# Altium integrated library ON Semi Signal Management Data Switches.IntLib: 121 symbols (part 2 of 4)
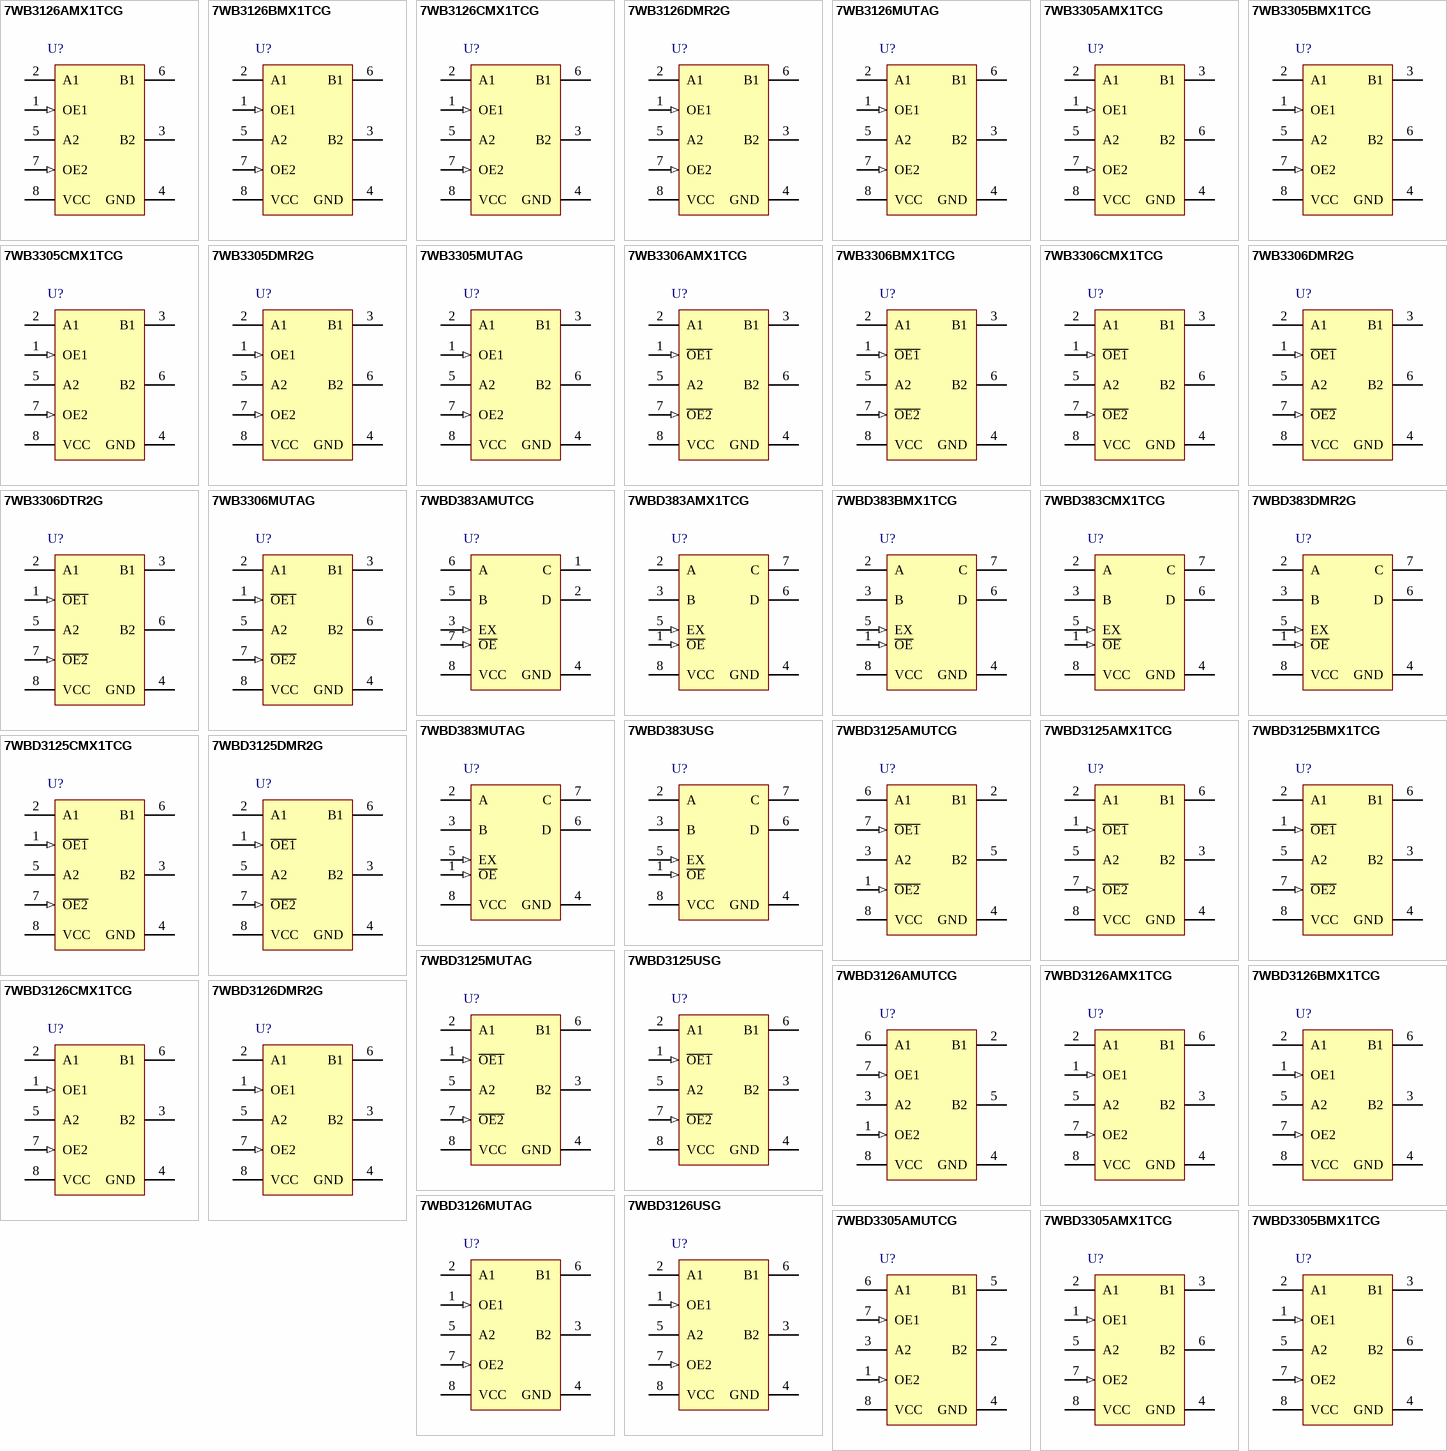
[diagram p4: symbols 7WB3126AMX1TCG to 7WBD3305BMX1TCG]

## 7WB3305BMX1TCG
designator U?
2-Bit Bus Switch, 4 to 5.5 V, -55 to 125 degC, 8-Pin ULLGA, Pb-Free, Tape and Reel; Manufacturer: On Semiconductor; PartNumber: 7WB3305BMX1TCG; VCC Max (V): 5.5; VCC Min (V): 4; DatasheetVersion: Rev. 0; PackageVersion: Rev. A, 02/2008; PackageReference: ULLGA-8-613AB-01; PackageDescription: 8-Pin Land Grid Array, Body 1.6 x 1 mm, Pitch 0.4 mm; Supplier 1: Digi-Key; Supplier Part Number 1: 7WB3305BMX1TCG-ND; Supplier 2: Mouser; Supplier Part Number 2: 863-7WB3305BMX1TCG; Packing: Tape and Reel; RoHS: TRUE; Mounting Technology: Surface Mount; ComponentLink1Description: Manufacturer URL; ComponentLink1URL: http://www.onsemi.com/; ComponentLink2Description: Datasheet; ComponentLink2URL: http://www.onsemi.com/pub_link/Collateral/7WB3305-D.PDF; ComponentLink3Description: Package Specification; ComponentLink3URL: http://www.onsemi.com/pub_link/Collateral/613AB.PDF
footprint ONSC-ULLGA-8-613AB-01_V (SON, 8-Leads, Body 1.6x1mm, Pitch 0.4mm)
pins: 1 OE1 (in), 2 A1, 3 B1, 4 GND (power), 5 A2, 6 B2, 7 OE2 (in), 8 VCC (power)

## 7WB3305CMX1TCG
designator U?
2-Bit Bus Switch, 4 to 5.5 V, -55 to 125 degC, 8-Pin ULLGA, Pb-Free, Tape and Reel; Manufacturer: On Semiconductor; PartNumber: 7WB3305CMX1TCG; VCC Max (V): 5.5; VCC Min (V): 4; DatasheetVersion: Rev. 0; PackageVersion: Rev. A, 02/2008; PackageReference: ULLGA-8-613AA-01; PackageDescription: 8-Pin Land Grid Array, Body 1.45 x 1 mm, Pitch 0.35 mm; Supplier 1: Digi-Key; Supplier Part Number 1: 7WB3305CMX1TCG-ND; Supplier 2: Mouser; Supplier Part Number 2: 863-7WB3305CMX1TCG; Packing: Tape and Reel; RoHS: TRUE; Mounting Technology: Surface Mount; ComponentLink1Description: Manufacturer URL; ComponentLink1URL: http://www.onsemi.com/; ComponentLink2Description: Datasheet; ComponentLink2URL: http://www.onsemi.com/pub_link/Collateral/7WB3305-D.PDF; ComponentLink3Description: Package Specification; ComponentLink3URL: http://www.onsemi.com/pub_link/Collateral/613AA.PDF
footprint ONSC-ULLGA-8-613AA-01_V (SON, 8-Leads, Body 1.45x1mm, Pitch 0.35mm)
pins: 1 OE1 (in), 2 A1, 3 B1, 4 GND (power), 5 A2, 6 B2, 7 OE2 (in), 8 VCC (power)

## 7WB3305DMR2G
designator U?
2-Bit Bus Switch, 4 to 5.5 V, -55 to 125 degC, 8-Pin MICRO, Pb-Free, Tape and Reel; Manufacturer: On Semiconductor; PartNumber: 7WB3305DMR2G; VCC Max (V): 5.5; VCC Min (V): 4; DatasheetVersion: Rev. 0; PackageVersion: Rev. H; PackageReference: MICRO-8-846A-02_H; PackageDescription: 8-Pin Small Outline Package, Body 3 x 3 mm, Pitch 0.65 mm; Packing: Tape and Reel; RoHS: TRUE; Mounting Technology: Surface Mount; ComponentLink1Description: Manufacturer URL; ComponentLink1URL: http://www.onsemi.com/; ComponentLink2Description: Datasheet; ComponentLink2URL: http://www.onsemi.com/pub_link/Collateral/7WB3305-D.PDF; ComponentLink3Description: Package Specification; ComponentLink3URL: http://www.onsemi.com/pub_link/Collateral/NLSV2T244-D.PDF
footprint ONSC-MICRO-8-846A-02_H_V (SOIC, 8-Leads, Body 3.1x3.1mm, Pitch 0.65mm)
pins: 1 OE1 (in), 2 A1, 3 B1, 4 GND (power), 5 A2, 6 B2, 7 OE2 (in), 8 VCC (power)

## 7WB3305MUTAG
designator U?
2-Bit Bus Switch, 4 to 5.5 V, -55 to 125 degC, 8-Pin UDFN, Pb-Free, Tape and Reel; Manufacturer: On Semiconductor; PartNumber: 7WB3305MUTAG; VCC Max (V): 5.5; VCC Min (V): 4; DatasheetVersion: Rev. 0; PackageVersion: Rev. O, 11/2006; PackageReference: UDFN-8-517AJ-01; PackageDescription: 8-Pin Small Outline No-Lead, Body 1.8 x 1.2 mm, Pitch 0.4 mm; Supplier 1: Digi-Key; Supplier Part Number 1: 7WB3305MUTAG-ND; Supplier 2: Mouser; Supplier Part Number 2: 863-7WB3305MUTAG; Packing: Tape and Reel; RoHS: TRUE; Mounting Technology: Surface Mount; ComponentLink1Description: Manufacturer URL; ComponentLink1URL: http://www.onsemi.com/; ComponentLink2Description: Datasheet; ComponentLink2URL: http://www.onsemi.com/pub_link/Collateral/7WB3305-D.PDF; ComponentLink3Description: Package Specification; ComponentLink3URL: http://www.onsemi.cn/pub_link/Collateral/517AJ.PDF.1
footprint ONSC-UDFN-8-517AJ-01_V (SON, 8-Leads, Body 1.8x1.2mm, Pitch 0.4mm)
pins: 1 OE1 (in), 2 A1, 3 B1, 4 GND (power), 5 A2, 6 B2, 7 OE2 (in), 8 VCC (power)

## 7WB3306AMX1TCG
designator U?
2-Bit Bus Switch, 4 to 5.5 V, -55 to 125 degC, 8-Pin ULLGA, Pb-Free, Tape and Reel; Manufacturer: On Semiconductor; PartNumber: 7WB3306AMX1TCG; VCC Max (V): 5.5; VCC Min (V): 4; DatasheetVersion: Rev. 2; PackageVersion: Rev. A, 02/2008; PackageReference: ULLGA-8-613AC-01; PackageDescription: 8-Pin Land Grid Array, Body 1.95 x 1 mm, Pitch 0.5 mm; Supplier 1: Digi-Key; Supplier Part Number 1: 7WB3306AMX1TCG-ND; Supplier 2: Mouser; Supplier Part Number 2: 863-7WB3306AMX1TCG; Packing: Tape and Reel; RoHS: TRUE; Mounting Technology: Surface Mount; ComponentLink1Description: Manufacturer URL; ComponentLink1URL: http://www.onsemi.com/; ComponentLink2Description: Datasheet; ComponentLink2URL: http://www.onsemi.com/pub_link/Collateral/7WB3306-D.PDF; ComponentLink3Description: Package Specification; ComponentLink3URL: http://www.onsemi.com/pub_link/Collateral/613AC.PDF
footprint ONSC-ULLGA-8-613AC-01_V (ULLGA, 8-Leads, Body 1.95x1mm, Pitch 0.5mm)
pins: 1 ~{OE1} (in), 2 A1, 3 B1, 4 GND (power), 5 A2, 6 B2, 7 ~{OE2} (in), 8 VCC (power)

## 7WB3306BMX1TCG
designator U?
2-Bit Bus Switch, 4 to 5.5 V, -55 to 125 degC, 8-Pin ULLGA, Pb-Free, Tape and Reel; Manufacturer: On Semiconductor; PartNumber: 7WB3306BMX1TCG; VCC Max (V): 5.5; VCC Min (V): 4; DatasheetVersion: Rev. 2; PackageVersion: Rev. A, 02/2008; PackageReference: ULLGA-8-613AB-01; PackageDescription: 8-Pin Land Grid Array, Body 1.6 x 1 mm, Pitch 0.4 mm; Supplier 1: Digi-Key; Supplier Part Number 1: 7WB3306BMX1TCG-ND; Supplier 2: Mouser; Supplier Part Number 2: 863-7WB3306BMX1TCG; Packing: Tape and Reel; RoHS: TRUE; Mounting Technology: Surface Mount; ComponentLink1Description: Manufacturer URL; ComponentLink1URL: http://www.onsemi.com/; ComponentLink2Description: Datasheet; ComponentLink2URL: http://www.onsemi.com/pub_link/Collateral/7WB3306-D.PDF; ComponentLink3Description: Package Specification; ComponentLink3URL: http://www.onsemi.com/pub_link/Collateral/613AB.PDF
footprint ONSC-ULLGA-8-613AB-01_V (SON, 8-Leads, Body 1.6x1mm, Pitch 0.4mm)
pins: 1 ~{OE1} (in), 2 A1, 3 B1, 4 GND (power), 5 A2, 6 B2, 7 ~{OE2} (in), 8 VCC (power)

## 7WB3306CMX1TCG
designator U?
2-Bit Bus Switch, 4 to 5.5 V, -55 to 125 degC, 8-Pin ULLGA, Pb-Free, Tape and Reel; Manufacturer: On Semiconductor; PartNumber: 7WB3306CMX1TCG; VCC Max (V): 5.5; VCC Min (V): 4; DatasheetVersion: Rev. 2; PackageVersion: Rev. A, 02/2008; PackageReference: ULLGA-8-613AA-01; PackageDescription: 8-Pin Land Grid Array, Body 1.45 x 1 mm, Pitch 0.35 mm; Supplier 1: Digi-Key; Supplier Part Number 1: 7WB3306CMX1TCG-ND; Supplier 2: Mouser; Supplier Part Number 2: 863-7WB3306CMX1TCG; Packing: Tape and Reel; RoHS: TRUE; Mounting Technology: Surface Mount; ComponentLink1Description: Manufacturer URL; ComponentLink1URL: http://www.onsemi.com/; ComponentLink2Description: Datasheet; ComponentLink2URL: http://www.onsemi.com/pub_link/Collateral/7WB3306-D.PDF; ComponentLink3Description: Package Specification; ComponentLink3URL: http://www.onsemi.com/pub_link/Collateral/613AA.PDF
footprint ONSC-ULLGA-8-613AA-01_V (SON, 8-Leads, Body 1.45x1mm, Pitch 0.35mm)
pins: 1 ~{OE1} (in), 2 A1, 3 B1, 4 GND (power), 5 A2, 6 B2, 7 ~{OE2} (in), 8 VCC (power)

## 7WB3306DMR2G
designator U?
2-Bit Bus Switch, 4 to 5.5 V, -55 to 125 degC, 8-Pin MICRO, Pb-Free, Tape and Reel; Manufacturer: On Semiconductor; PartNumber: 7WB3306DMR2G; VCC Max (V): 5.5; VCC Min (V): 4; DatasheetVersion: Rev. 2; PackageVersion: Rev. H; PackageReference: MICRO-8-846A-02_H; PackageDescription: 8-Pin Small Outline Package, Body 3 x 3 mm, Pitch 0.65 mm; Packing: Tape and Reel; RoHS: TRUE; Mounting Technology: Surface Mount; ComponentLink1Description: Manufacturer URL; ComponentLink1URL: http://www.onsemi.com/; ComponentLink2Description: Datasheet; ComponentLink2URL: http://www.onsemi.com/pub_link/Collateral/7WB3306-D.PDF; ComponentLink3Description: Package Specification; ComponentLink3URL: http://www.onsemi.com/pub_link/Collateral/NLSV2T244-D.PDF
footprint ONSC-MICRO-8-846A-02_H_V (SOIC, 8-Leads, Body 3.1x3.1mm, Pitch 0.65mm)
pins: 1 ~{OE1} (in), 2 A1, 3 B1, 4 GND (power), 5 A2, 6 B2, 7 ~{OE2} (in), 8 VCC (power)

## 7WB3306DTR2G
designator U?
2-Bit Bus Switch, 4 to 5.5 V, -55 to 125 degC, 8-Pin TSSOP, Pb-Free, Tape and Reel; Manufacturer: On Semiconductor; PartNumber: 7WB3306DTR2G; VCC Max (V): 5.5; VCC Min (V): 4; DatasheetVersion: Rev. 2; PackageVersion: Rev. O, 12/2008; PackageReference: TSSOP-8-948AL-01; PackageDescription: 8-Pin Small Outline Package, Body 4.4 x 3 mm, Pitch 0.65 mm; Supplier 1: Digi-Key; Supplier Part Number 1: 7WB3306DTR2G-ND; Supplier 2: Mouser; Supplier Part Number 2: 863-7WB3306DTR2G; Packing: Tape and Reel; RoHS: TRUE; Mounting Technology: Surface Mount; Code_JEDEC: MO-153; ComponentLink1Description: Manufacturer URL; ComponentLink1URL: http://www.onsemi.com/; ComponentLink2Description: Datasheet; ComponentLink2URL: http://www.onsemi.com/pub_link/Collateral/7WB3306-D.PDF; ComponentLink3Description: Package Specification; ComponentLink3URL: http://www.onsemi.com/pub/Collateral/948AL.PDF
footprint ONSC-TSSOP-8-948AL-01_N (SOP, 8-Leads, Body 4.5x3.1mm, Pitch 0.65mm, IPC Medium Density)
footprint ONSC-TSSOP-8-948AL-01_L (SOP, 8-Leads, Body 4.5x3.1mm, Pitch 0.65mm, IPC High Density)
footprint ONSC-TSSOP-8-948AL-01_M (SOP, 8-Leads, Body 4.5x3.1mm, Pitch 0.65mm, IPC Low Density)
pins: 1 ~{OE1} (in), 2 A1, 3 B1, 4 GND (power), 5 A2, 6 B2, 7 ~{OE2} (in), 8 VCC (power)

## 7WB3306MUTAG
designator U?
2-Bit Bus Switch, 4 to 5.5 V, -55 to 125 degC, 8-Pin UDFN, Pb-Free, Tape and Reel; Manufacturer: On Semiconductor; PartNumber: 7WB3306MUTAG; VCC Max (V): 5.5; VCC Min (V): 4; DatasheetVersion: Rev. 2; PackageVersion: Rev. O, 11/2006; PackageReference: UDFN-8-517AJ-01; PackageDescription: 8-Pin Small Outline No-Lead, Body 1.8 x 1.2 mm, Pitch 0.4 mm; Supplier 1: Digi-Key; Supplier Part Number 1: 7WB3306MUTAG-ND; Supplier 2: Mouser; Supplier Part Number 2: 863-7WB3306MUTAG; Packing: Tape and Reel; RoHS: TRUE; Mounting Technology: Surface Mount; ComponentLink1Description: Manufacturer URL; ComponentLink1URL: http://www.onsemi.com/; ComponentLink2Description: Datasheet; ComponentLink2URL: http://www.onsemi.com/pub_link/Collateral/7WB3306-D.PDF; ComponentLink3Description: Package Specification; ComponentLink3URL: http://www.onsemi.cn/pub_link/Collateral/517AJ.PDF.1
footprint ONSC-UDFN-8-517AJ-01_V (SON, 8-Leads, Body 1.8x1.2mm, Pitch 0.4mm)
pins: 1 ~{OE1} (in), 2 A1, 3 B1, 4 GND (power), 5 A2, 6 B2, 7 ~{OE2} (in), 8 VCC (power)

## 7WBD383AMUTCG
designator U?
Translating Bus Exchange Switch, 4 to 5.5 V, -55 to 125 degC, 8-Pin UQFN, Pb-Free, Tape and Reel; Manufacturer: On Semiconductor; PartNumber: 7WBD383AMUTCG; VCC Max (V): 5.5; VCC Min (V): 4; DatasheetVersion: Rev. 1; PackageVersion: Rev. O, 11/2008; PackageReference: UQFN-8-523AN-01; PackageDescription: 8-Pin Quad Flat No-Lead, Body 1.6 x 1.6 mm, Pitch 0.5 mm; Supplier 1: Digi-Key; Supplier Part Number 1: 7WBD383AMUTCG-ND; Supplier 2: Mouser; Supplier Part Number 2: 863-7WBD383AMUTCG; Packing: Tape and Reel; RoHS: TRUE; Mounting Technology: Surface Mount; ComponentLink1Description: Manufacturer URL; ComponentLink1URL: http://www.onsemi.com/; ComponentLink2Description: Datasheet; ComponentLink2URL: http://www.onsemi.com/pub/Collateral/7WBD383-D.PDF; ComponentLink3Description: Package Specification; ComponentLink3URL: http://www.onsemi.com/pub_link/Collateral/523AN.PDF
footprint ONSC-UQFN-8-523AN-01_V (QFN, 8-Leads, Body 1.6x1.6mm, Pitch 0.5mm)
pins: 1 C, 2 D, 3 EX (in), 4 GND (power), 5 B, 6 A, 7 ~{OE} (in), 8 VCC (power)

## 7WBD383AMX1TCG
designator U?
Translating Bus Exchange Switch, 4 to 5.5 V, -55 to 125 degC, 8-Pin ULLGA, Pb-Free, Tape and Reel; Manufacturer: On Semiconductor; PartNumber: 7WBD383AMX1TCG; VCC Max (V): 5.5; VCC Min (V): 4; DatasheetVersion: Rev. 1; PackageVersion: Rev. A, 02/2008; PackageReference: ULLGA-8-613AC-01; PackageDescription: 8-Pin Land Grid Array, Body 1.95 x 1 mm, Pitch 0.5 mm; Supplier 1: Digi-Key; Supplier Part Number 1: 7WBD383AMX1TCG-ND; Supplier 2: Mouser; Supplier Part Number 2: 863-7WBD383AMX1TCG; Packing: Tape and Reel; RoHS: TRUE; Mounting Technology: Surface Mount; ComponentLink1Description: Manufacturer URL; ComponentLink1URL: http://www.onsemi.com/; ComponentLink2Description: Datasheet; ComponentLink2URL: http://www.onsemi.com/pub/Collateral/7WBD383-D.PDF; ComponentLink3Description: Package Specification; ComponentLink3URL: http://www.onsemi.com/pub_link/Collateral/613AC.PDF
footprint ONSC-ULLGA-8-613AC-01_V (ULLGA, 8-Leads, Body 1.95x1mm, Pitch 0.5mm)
pins: 1 ~{OE} (in), 2 A, 3 B, 4 GND (power), 5 EX (in), 6 D, 7 C, 8 VCC (power)

## 7WBD383BMX1TCG
designator U?
Translating Bus Exchange Switch, 4 to 5.5 V, -55 to 125 degC, 8-Pin ULLGA, Pb-Free, Tape and Reel; Manufacturer: On Semiconductor; PartNumber: 7WBD383BMX1TCG; VCC Max (V): 5.5; VCC Min (V): 4; DatasheetVersion: Rev. 1; PackageVersion: Rev. A, 02/2008; PackageReference: ULLGA-8-613AB-01; PackageDescription: 8-Pin Land Grid Array, Body 1.6 x 1 mm, Pitch 0.4 mm; Supplier 1: Digi-Key; Supplier Part Number 1: 7WBD383BMX1TCG-ND; Supplier 2: Mouser; Supplier Part Number 2: 863-7WBD383BMX1TCG; Packing: Tape and Reel; RoHS: TRUE; Mounting Technology: Surface Mount; ComponentLink1Description: Manufacturer URL; ComponentLink1URL: http://www.onsemi.com/; ComponentLink2Description: Datasheet; ComponentLink2URL: http://www.onsemi.com/pub/Collateral/7WBD383-D.PDF; ComponentLink3Description: Package Specification; ComponentLink3URL: http://www.onsemi.com/pub_link/Collateral/613AB.PDF
footprint ONSC-ULLGA-8-613AB-01_V (SON, 8-Leads, Body 1.6x1mm, Pitch 0.4mm)
pins: 1 ~{OE} (in), 2 A, 3 B, 4 GND (power), 5 EX (in), 6 D, 7 C, 8 VCC (power)

## 7WBD383CMX1TCG
designator U?
Translating Bus Exchange Switch, 4 to 5.5 V, -55 to 125 degC, 8-Pin ULLGA, Pb-Free, Tape and Reel; Manufacturer: On Semiconductor; PartNumber: 7WBD383CMX1TCG; VCC Max (V): 5.5; VCC Min (V): 4; DatasheetVersion: Rev. 1; PackageVersion: Rev. A, 02/2008; PackageReference: ULLGA-8-613AA-01; PackageDescription: 8-Pin Land Grid Array, Body 1.45 x 1 mm, Pitch 0.35 mm; Supplier 1: Digi-Key; Supplier Part Number 1: 7WBD383CMX1TCG-ND; Supplier 2: Mouser; Supplier Part Number 2: 863-7WBD383CMX1TCG; Packing: Tape and Reel; RoHS: TRUE; Mounting Technology: Surface Mount; ComponentLink1Description: Manufacturer URL; ComponentLink1URL: http://www.onsemi.com/; ComponentLink2Description: Datasheet; ComponentLink2URL: http://www.onsemi.com/pub/Collateral/7WBD383-D.PDF; ComponentLink3Description: Package Specification; ComponentLink3URL: http://www.onsemi.com/pub_link/Collateral/613AA.PDF
footprint ONSC-ULLGA-8-613AA-01_V (SON, 8-Leads, Body 1.45x1mm, Pitch 0.35mm)
pins: 1 ~{OE} (in), 2 A, 3 B, 4 GND (power), 5 EX (in), 6 D, 7 C, 8 VCC (power)

## 7WBD383DMR2G
designator U?
Translating Bus Exchange Switch, 4 to 5.5 V, -55 to 125 degC, 8-Pin MICRO, Pb-Free, Tape and Reel; Manufacturer: On Semiconductor; PartNumber: 7WBD383DMR2G; VCC Max (V): 5.5; VCC Min (V): 4; DatasheetVersion: Rev. 1; PackageVersion: Rev. H; PackageReference: MICRO-8-846A-02_H; PackageDescription: 8-Pin Small Outline Package, Body 3 x 3 mm, Pitch 0.65 mm; Packing: Tape and Reel; RoHS: TRUE; Mounting Technology: Surface Mount; ComponentLink1Description: Manufacturer URL; ComponentLink1URL: http://www.onsemi.com/; ComponentLink2Description: Datasheet; ComponentLink2URL: http://www.onsemi.com/pub/Collateral/7WBD383-D.PDF; ComponentLink3Description: Package Specification; ComponentLink3URL: http://www.onsemi.com/pub_link/Collateral/NLSV2T244-D.PDF
footprint ONSC-MICRO-8-846A-02_H_V (SOIC, 8-Leads, Body 3.1x3.1mm, Pitch 0.65mm)
pins: 1 ~{OE} (in), 2 A, 3 B, 4 GND (power), 5 EX (in), 6 D, 7 C, 8 VCC (power)

## 7WBD383MUTAG
designator U?
Translating Bus Exchange Switch, 4 to 5.5 V, -55 to 125 degC, 8-Pin UDFN, Pb-Free, Tape and Reel; Manufacturer: On Semiconductor; PartNumber: 7WBD383MUTAG; VCC Max (V): 5.5; VCC Min (V): 4; DatasheetVersion: Rev. 1; PackageVersion: Rev. O, 11/2006; PackageReference: UDFN-8-517AJ-01; PackageDescription: 8-Pin Small Outline No-Lead, Body 1.8 x 1.2 mm, Pitch 0.4 mm; Supplier 1: Digi-Key; Supplier Part Number 1: 7WBD383MUTAG-ND; Supplier 2: Mouser; Supplier Part Number 2: 863-7WBD383MUTAG; Packing: Tape and Reel; RoHS: TRUE; Mounting Technology: Surface Mount; ComponentLink1Description: Manufacturer URL; ComponentLink1URL: http://www.onsemi.com/; ComponentLink2Description: Datasheet; ComponentLink2URL: http://www.onsemi.com/pub/Collateral/7WBD383-D.PDF; ComponentLink3Description: Package Specification; ComponentLink3URL: http://www.onsemi.cn/pub_link/Collateral/517AJ.PDF.1
footprint ONSC-UDFN-8-517AJ-01_V (SON, 8-Leads, Body 1.8x1.2mm, Pitch 0.4mm)
pins: 1 ~{OE} (in), 2 A, 3 B, 4 GND (power), 5 EX (in), 6 D, 7 C, 8 VCC (power)

## 7WBD383USG
designator U?
Translating Bus Exchange Switch, 4 to 5.5 V, -55 to 125 degC, 8-Pin US, Pb-Free, Tape and Reel; Manufacturer: On Semiconductor; PartNumber: 7WBD383USG; VCC Max (V): 5.5; VCC Min (V): 4; DatasheetVersion: Rev. 1; PackageVersion: Rev. B, 04/2006; PackageReference: US-8-493-02; PackageDescription: 8-Pin Small Outline Package, Body 2 x 2.3 mm, Pitch 0.5 mm; Supplier 1: Digi-Key; Supplier Part Number 1: 7WBD383USG-ND; Supplier 2: Mouser; Supplier Part Number 2: 863-7WBD383USG; Packing: Tape and Reel; RoHS: TRUE; Mounting Technology: Surface Mount; ComponentLink1Description: Manufacturer URL; ComponentLink1URL: http://www.onsemi.com/; ComponentLink2Description: Datasheet; ComponentLink2URL: http://www.onsemi.com/pub/Collateral/7WBD383-D.PDF; ComponentLink3Description: Package Specification; ComponentLink3URL: http://www.onsemi.com/pub_link/Collateral/493-01.PDF
footprint ONSC-US-8-493-02_V (SOP, 8-Leads, Body 2.4x2.1mm, Pitch 0.5mm)
pins: 1 ~{OE} (in), 2 A, 3 B, 4 GND (power), 5 EX (in), 6 D, 7 C, 8 VCC (power)

## 7WBD3125AMUTCG
designator U?
2-Bit Translating Bus Switch, 4 to 5.5 V, -55 to 125 degC, 8-Pin UQFN, Pb-Free, Tape and Reel; Manufacturer: On Semiconductor; PartNumber: 7WBD3125AMUTCG; VCC Max (V): 5.5; VCC Min (V): 4; DatasheetVersion: Rev. 1; PackageVersion: Rev. O, 11/2008; PackageReference: UQFN-8-523AN-01; PackageDescription: 8-Pin Quad Flat No-Lead, Body 1.6 x 1.6 mm, Pitch 0.5 mm; Supplier 1: Digi-Key; Supplier Part Number 1: 7WBD3125AMUTCG-ND; Supplier 2: Mouser; Supplier Part Number 2: 863-7WBD3125AMUTCG; Packing: Tape and Reel; RoHS: TRUE; Mounting Technology: Surface Mount; ComponentLink1Description: Manufacturer URL; ComponentLink1URL: http://www.onsemi.com/; ComponentLink2Description: Datasheet; ComponentLink2URL: http://www.onsemi.com/pub/Collateral/7WBD3125-D.PDF; ComponentLink3Description: Package Specification; ComponentLink3URL: http://www.onsemi.com/pub_link/Collateral/523AN.PDF
footprint ONSC-UQFN-8-523AN-01_V (QFN, 8-Leads, Body 1.6x1.6mm, Pitch 0.5mm)
pins: 1 ~{OE2} (in), 2 B1, 3 A2, 4 GND (power), 5 B2, 6 A1, 7 ~{OE1} (in), 8 VCC (power)

## 7WBD3125AMX1TCG
designator U?
2-Bit Translating Bus Switch, 4 to 5.5 V, -55 to 125 degC, 8-Pin ULLGA, Pb-Free, Tape and Reel; Manufacturer: On Semiconductor; PartNumber: 7WBD3125AMX1TCG; VCC Max (V): 5.5; VCC Min (V): 4; DatasheetVersion: Rev. 1; PackageVersion: Rev. A, 02/2008; PackageReference: ULLGA-8-613AC-01; PackageDescription: 8-Pin Land Grid Array, Body 1.95 x 1 mm, Pitch 0.5 mm; Supplier 1: Digi-Key; Supplier Part Number 1: 7WBD3125AMX1TCG-ND; Supplier 2: Mouser; Supplier Part Number 2: 863-7WBD3125AMX1TCG; Packing: Tape and Reel; RoHS: TRUE; Mounting Technology: Surface Mount; ComponentLink1Description: Manufacturer URL; ComponentLink1URL: http://www.onsemi.com/; ComponentLink2Description: Datasheet; ComponentLink2URL: http://www.onsemi.com/pub/Collateral/7WBD3125-D.PDF; ComponentLink3Description: Package Specification; ComponentLink3URL: http://www.onsemi.com/pub_link/Collateral/613AC.PDF
footprint ONSC-ULLGA-8-613AC-01_V (ULLGA, 8-Leads, Body 1.95x1mm, Pitch 0.5mm)
pins: 1 ~{OE1} (in), 2 A1, 3 B2, 4 GND (power), 5 A2, 6 B1, 7 ~{OE2} (in), 8 VCC (power)

## 7WBD3125BMX1TCG
designator U?
2-Bit Translating Bus Switch, 4 to 5.5 V, -55 to 125 degC, 8-Pin ULLGA, Pb-Free, Tape and Reel; Manufacturer: On Semiconductor; PartNumber: 7WBD3125BMX1TCG; VCC Max (V): 5.5; VCC Min (V): 4; DatasheetVersion: Rev. 1; PackageVersion: Rev. A, 02/2008; PackageReference: ULLGA-8-613AB-01; PackageDescription: 8-Pin Land Grid Array, Body 1.6 x 1 mm, Pitch 0.4 mm; Supplier 1: Digi-Key; Supplier Part Number 1: 7WBD3125BMX1TCG-ND; Supplier 2: Mouser; Supplier Part Number 2: 863-7WBD3125BMX1TCG; Packing: Tape and Reel; RoHS: TRUE; Mounting Technology: Surface Mount; ComponentLink1Description: Manufacturer URL; ComponentLink1URL: http://www.onsemi.com/; ComponentLink2Description: Datasheet; ComponentLink2URL: http://www.onsemi.com/pub/Collateral/7WBD3125-D.PDF; ComponentLink3Description: Package Specification; ComponentLink3URL: http://www.onsemi.com/pub_link/Collateral/613AB.PDF
footprint ONSC-ULLGA-8-613AB-01_V (SON, 8-Leads, Body 1.6x1mm, Pitch 0.4mm)
pins: 1 ~{OE1} (in), 2 A1, 3 B2, 4 GND (power), 5 A2, 6 B1, 7 ~{OE2} (in), 8 VCC (power)

## 7WBD3125CMX1TCG
designator U?
2-Bit Translating Bus Switch, 4 to 5.5 V, -55 to 125 degC, 8-Pin ULLGA, Pb-Free, Tape and Reel; Manufacturer: On Semiconductor; PartNumber: 7WBD3125CMX1TCG; VCC Max (V): 5.5; VCC Min (V): 4; DatasheetVersion: Rev. 1; PackageVersion: Rev. A, 02/2008; PackageReference: ULLGA-8-613AA-01; PackageDescription: 8-Pin Land Grid Array, Body 1.45 x 1 mm, Pitch 0.35 mm; Supplier 1: Digi-Key; Supplier Part Number 1: 7WBD3125CMX1TCG-ND; Supplier 2: Mouser; Supplier Part Number 2: 863-7WBD3125CMX1TCG; Packing: Tape and Reel; RoHS: TRUE; Mounting Technology: Surface Mount; ComponentLink1Description: Manufacturer URL; ComponentLink1URL: http://www.onsemi.com/; ComponentLink2Description: Datasheet; ComponentLink2URL: http://www.onsemi.com/pub/Collateral/7WBD3125-D.PDF; ComponentLink3Description: Package Specification; ComponentLink3URL: http://www.onsemi.com/pub_link/Collateral/613AA.PDF
footprint ONSC-ULLGA-8-613AA-01_V (SON, 8-Leads, Body 1.45x1mm, Pitch 0.35mm)
pins: 1 ~{OE1} (in), 2 A1, 3 B2, 4 GND (power), 5 A2, 6 B1, 7 ~{OE2} (in), 8 VCC (power)

## 7WBD3125DMR2G
designator U?
2-Bit Translating Bus Switch, 4 to 5.5 V, -55 to 125 degC, 8-Pin MICRO, Pb-Free, Tape and Reel; Manufacturer: On Semiconductor; PartNumber: 7WBD3125DMR2G; VCC Max (V): 5.5; VCC Min (V): 4; DatasheetVersion: Rev. 1; PackageVersion: Rev. H; PackageReference: MICRO-8-846A-02_H; PackageDescription: 8-Pin Small Outline Package, Body 3 x 3 mm, Pitch 0.65 mm; Packing: Tape and Reel; RoHS: TRUE; Mounting Technology: Surface Mount; ComponentLink1Description: Manufacturer URL; ComponentLink1URL: http://www.onsemi.com/; ComponentLink2Description: Datasheet; ComponentLink2URL: http://www.onsemi.com/pub/Collateral/7WBD3125-D.PDF; ComponentLink3Description: Package Specification; ComponentLink3URL: http://www.onsemi.com/pub_link/Collateral/NLSV2T244-D.PDF
footprint ONSC-MICRO-8-846A-02_H_V (SOIC, 8-Leads, Body 3.1x3.1mm, Pitch 0.65mm)
pins: 1 ~{OE1} (in), 2 A1, 3 B2, 4 GND (power), 5 A2, 6 B1, 7 ~{OE2} (in), 8 VCC (power)

## 7WBD3125MUTAG
designator U?
2-Bit Translating Bus Switch, 4 to 5.5 V, -55 to 125 degC, 8-Pin UDFN, Pb-Free, Tape and Reel; Manufacturer: On Semiconductor; PartNumber: 7WBD3125MUTAG; VCC Max (V): 5.5; VCC Min (V): 4; DatasheetVersion: Rev. 1; PackageVersion: Rev. O, 11/2006; PackageReference: UDFN-8-517AJ-01; PackageDescription: 8-Pin Small Outline No-Lead, Body 1.8 x 1.2 mm, Pitch 0.4 mm; Supplier 1: Digi-Key; Supplier Part Number 1: 7WBD3125MUTAG-ND; Supplier 2: Mouser; Supplier Part Number 2: 863-7WBD3125MUTAG; Packing: Tape and Reel; RoHS: TRUE; Mounting Technology: Surface Mount; ComponentLink1Description: Manufacturer URL; ComponentLink1URL: http://www.onsemi.com/; ComponentLink2Description: Datasheet; ComponentLink2URL: http://www.onsemi.com/pub/Collateral/7WBD3125-D.PDF; ComponentLink3Description: Package Specification; ComponentLink3URL: http://www.onsemi.cn/pub_link/Collateral/517AJ.PDF.1
footprint ONSC-UDFN-8-517AJ-01_V (SON, 8-Leads, Body 1.8x1.2mm, Pitch 0.4mm)
pins: 1 ~{OE1} (in), 2 A1, 3 B2, 4 GND (power), 5 A2, 6 B1, 7 ~{OE2} (in), 8 VCC (power)

## 7WBD3125USG
designator U?
2-Bit Translating Bus Switch, 4 to 5.5 V, -55 to 125 degC, 8-Pin US, Pb-Free, Tape and Reel; Manufacturer: On Semiconductor; PartNumber: 7WBD3125USG; VCC Max (V): 5.5; VCC Min (V): 4; DatasheetVersion: Rev. 1; PackageVersion: Rev. B, 04/2006; PackageReference: US-8-493-02; PackageDescription: 8-Pin Small Outline Package, Body 2 x 2.3 mm, Pitch 0.5 mm; Supplier 1: Digi-Key; Supplier Part Number 1: 7WBD3125USG-ND; Supplier 2: Mouser; Supplier Part Number 2: 863-7WBD3125USG; Packing: Tape and Reel; RoHS: TRUE; Mounting Technology: Surface Mount; ComponentLink1Description: Manufacturer URL; ComponentLink1URL: http://www.onsemi.com/; ComponentLink2Description: Datasheet; ComponentLink2URL: http://www.onsemi.com/pub/Collateral/7WBD3125-D.PDF; ComponentLink3Description: Package Specification; ComponentLink3URL: http://www.onsemi.com/pub_link/Collateral/493-01.PDF
footprint ONSC-US-8-493-02_V (SOP, 8-Leads, Body 2.4x2.1mm, Pitch 0.5mm)
pins: 1 ~{OE1} (in), 2 A1, 3 B2, 4 GND (power), 5 A2, 6 B1, 7 ~{OE2} (in), 8 VCC (power)

## 7WBD3126AMUTCG
designator U?
2-Bit Translating Bus Switch, 4 to 5.5 V, -55 to 125 degC, 8-Pin UQFN, Pb-Free, Tape and Reel; Manufacturer: On Semiconductor; PartNumber: 7WBD3126AMUTCG; VCC Max (V): 5.5; VCC Min (V): 4; DatasheetVersion: Rev. 1; PackageVersion: Rev. O, 11/2008; PackageReference: UQFN-8-523AN-01; PackageDescription: 8-Pin Quad Flat No-Lead, Body 1.6 x 1.6 mm, Pitch 0.5 mm; Supplier 1: Digi-Key; Supplier Part Number 1: 7WBD3126AMUTCG-ND; Supplier 2: Mouser; Supplier Part Number 2: 863-7WBD3126AMUTCG; Packing: Tape and Reel; RoHS: TRUE; Mounting Technology: Surface Mount; ComponentLink1Description: Manufacturer URL; ComponentLink1URL: http://www.onsemi.com/; ComponentLink2Description: Datasheet; ComponentLink2URL: http://www.onsemi.com/pub_link/Collateral/7WBD3126-D.PDF; ComponentLink3Description: Package Specification; ComponentLink3URL: http://www.onsemi.com/pub_link/Collateral/523AN.PDF
footprint ONSC-UQFN-8-523AN-01_V (QFN, 8-Leads, Body 1.6x1.6mm, Pitch 0.5mm)
pins: 1 OE2 (in), 2 B1, 3 A2, 4 GND (power), 5 B2, 6 A1, 7 OE1 (in), 8 VCC (power)

## 7WBD3126AMX1TCG
designator U?
2-Bit Translating Bus Switch, 4 to 5.5 V, -55 to 125 degC, 8-Pin ULLGA, Pb-Free, Tape and Reel; Manufacturer: On Semiconductor; PartNumber: 7WBD3126AMX1TCG; VCC Max (V): 5.5; VCC Min (V): 4; DatasheetVersion: Rev. 1; PackageVersion: Rev. A, 02/2008; PackageReference: ULLGA-8-613AC-01; PackageDescription: 8-Pin Land Grid Array, Body 1.95 x 1 mm, Pitch 0.5 mm; Supplier 1: Digi-Key; Supplier Part Number 1: 7WBD3126AMX1TCG-ND; Supplier 2: Mouser; Supplier Part Number 2: 863-7WBD3126AMX1TCG; Packing: Tape and Reel; RoHS: TRUE; Mounting Technology: Surface Mount; ComponentLink1Description: Manufacturer URL; ComponentLink1URL: http://www.onsemi.com/; ComponentLink2Description: Datasheet; ComponentLink2URL: http://www.onsemi.com/pub_link/Collateral/7WBD3126-D.PDF; ComponentLink3Description: Package Specification; ComponentLink3URL: http://www.onsemi.com/pub_link/Collateral/613AC.PDF
footprint ONSC-ULLGA-8-613AC-01_V (ULLGA, 8-Leads, Body 1.95x1mm, Pitch 0.5mm)
pins: 1 OE1 (in), 2 A1, 3 B2, 4 GND (power), 5 A2, 6 B1, 7 OE2 (in), 8 VCC (power)

## 7WBD3126BMX1TCG
designator U?
2-Bit Translating Bus Switch, 4 to 5.5 V, -55 to 125 degC, 8-Pin ULLGA, Pb-Free, Tape and Reel; Manufacturer: On Semiconductor; PartNumber: 7WBD3126BMX1TCG; VCC Max (V): 5.5; VCC Min (V): 4; DatasheetVersion: Rev. 1; PackageVersion: Rev. A, 02/2008; PackageReference: ULLGA-8-613AB-01; PackageDescription: 8-Pin Land Grid Array, Body 1.6 x 1 mm, Pitch 0.4 mm; Supplier 1: Digi-Key; Supplier Part Number 1: 7WBD3126BMX1TCG-ND; Supplier 2: Mouser; Supplier Part Number 2: 863-7WBD3126BMX1TCG; Packing: Tape and Reel; RoHS: TRUE; Mounting Technology: Surface Mount; ComponentLink1Description: Manufacturer URL; ComponentLink1URL: http://www.onsemi.com/; ComponentLink2Description: Datasheet; ComponentLink2URL: http://www.onsemi.com/pub_link/Collateral/7WBD3126-D.PDF; ComponentLink3Description: Package Specification; ComponentLink3URL: http://www.onsemi.com/pub_link/Collateral/613AB.PDF
footprint ONSC-ULLGA-8-613AB-01_V (SON, 8-Leads, Body 1.6x1mm, Pitch 0.4mm)
pins: 1 OE1 (in), 2 A1, 3 B2, 4 GND (power), 5 A2, 6 B1, 7 OE2 (in), 8 VCC (power)

## 7WBD3126CMX1TCG
designator U?
2-Bit Translating Bus Switch, 4 to 5.5 V, -55 to 125 degC, 8-Pin ULLGA, Pb-Free, Tape and Reel; Manufacturer: On Semiconductor; PartNumber: 7WBD3126CMX1TCG; VCC Max (V): 5.5; VCC Min (V): 4; DatasheetVersion: Rev. 1; PackageVersion: Rev. A, 02/2008; PackageReference: ULLGA-8-613AA-01; PackageDescription: 8-Pin Land Grid Array, Body 1.45 x 1 mm, Pitch 0.35 mm; Supplier 1: Digi-Key; Supplier Part Number 1: 7WBD3126CMX1TCG-ND; Supplier 2: Mouser; Supplier Part Number 2: 863-7WBD3126CMX1TCG; Packing: Tape and Reel; RoHS: TRUE; Mounting Technology: Surface Mount; ComponentLink1Description: Manufacturer URL; ComponentLink1URL: http://www.onsemi.com/; ComponentLink2Description: Datasheet; ComponentLink2URL: http://www.onsemi.com/pub_link/Collateral/7WBD3126-D.PDF; ComponentLink3Description: Package Specification; ComponentLink3URL: http://www.onsemi.com/pub_link/Collateral/613AA.PDF
footprint ONSC-ULLGA-8-613AA-01_V (SON, 8-Leads, Body 1.45x1mm, Pitch 0.35mm)
pins: 1 OE1 (in), 2 A1, 3 B2, 4 GND (power), 5 A2, 6 B1, 7 OE2 (in), 8 VCC (power)

## 7WBD3126DMR2G
designator U?
2-Bit Translating Bus Switch, 4 to 5.5 V, -55 to 125 degC, 8-Pin MICRO, Pb-Free, Tape and Reel; Manufacturer: On Semiconductor; PartNumber: 7WBD3126DMR2G; VCC Max (V): 5.5; VCC Min (V): 4; DatasheetVersion: Rev. 1; PackageVersion: Rev. H; PackageReference: MICRO-8-846A-02_H; PackageDescription: 8-Pin Small Outline Package, Body 3 x 3 mm, Pitch 0.65 mm; Packing: Tape and Reel; RoHS: TRUE; Mounting Technology: Surface Mount; ComponentLink1Description: Manufacturer URL; ComponentLink1URL: http://www.onsemi.com/; ComponentLink2Description: Datasheet; ComponentLink2URL: http://www.onsemi.com/pub_link/Collateral/7WBD3126-D.PDF; ComponentLink3Description: Package Specification; ComponentLink3URL: http://www.onsemi.com/pub_link/Collateral/NLSV2T244-D.PDF
footprint ONSC-MICRO-8-846A-02_H_V (SOIC, 8-Leads, Body 3.1x3.1mm, Pitch 0.65mm)
pins: 1 OE1 (in), 2 A1, 3 B2, 4 GND (power), 5 A2, 6 B1, 7 OE2 (in), 8 VCC (power)

## 7WBD3126MUTAG
designator U?
2-Bit Translating Bus Switch, 4 to 5.5 V, -55 to 125 degC, 8-Pin UDFN, Pb-Free, Tape and Reel; Manufacturer: On Semiconductor; PartNumber: 7WBD3126MUTAG; VCC Max (V): 5.5; VCC Min (V): 4; DatasheetVersion: Rev. 1; PackageVersion: Rev. O, 11/2006; PackageReference: UDFN-8-517AJ-01; PackageDescription: 8-Pin Small Outline No-Lead, Body 1.8 x 1.2 mm, Pitch 0.4 mm; Supplier 1: Digi-Key; Supplier Part Number 1: 7WBD3126MUTAG-ND; Supplier 2: Mouser; Supplier Part Number 2: 863-7WBD3126MUTAG; Packing: Tape and Reel; RoHS: TRUE; Mounting Technology: Surface Mount; ComponentLink1Description: Manufacturer URL; ComponentLink1URL: http://www.onsemi.com/; ComponentLink2Description: Datasheet; ComponentLink2URL: http://www.onsemi.com/pub_link/Collateral/7WBD3126-D.PDF; ComponentLink3Description: Package Specification; ComponentLink3URL: http://www.onsemi.cn/pub_link/Collateral/517AJ.PDF.1
footprint ONSC-UDFN-8-517AJ-01_V (SON, 8-Leads, Body 1.8x1.2mm, Pitch 0.4mm)
pins: 1 OE1 (in), 2 A1, 3 B2, 4 GND (power), 5 A2, 6 B1, 7 OE2 (in), 8 VCC (power)

## 7WBD3126USG
designator U?
2-Bit Translating Bus Switch, 4 to 5.5 V, -55 to 125 degC, 8-Pin US, Pb-Free, Tape and Reel; Manufacturer: On Semiconductor; PartNumber: 7WBD3126USG; VCC Max (V): 5.5; VCC Min (V): 4; DatasheetVersion: Rev. 1; PackageVersion: Rev. B, 04/2006; PackageReference: US-8-493-02; PackageDescription: 8-Pin Small Outline Package, Body 2 x 2.3 mm, Pitch 0.5 mm; Supplier 1: Digi-Key; Supplier Part Number 1: 7WBD3126USG-ND; Supplier 2: Mouser; Supplier Part Number 2: 863-7WBD3126USG; Packing: Tape and Reel; RoHS: TRUE; Mounting Technology: Surface Mount; ComponentLink1Description: Manufacturer URL; ComponentLink1URL: http://www.onsemi.com/; ComponentLink2Description: Datasheet; ComponentLink2URL: http://www.onsemi.com/pub_link/Collateral/7WBD3126-D.PDF; ComponentLink3Description: Package Specification; ComponentLink3URL: http://www.onsemi.com/pub_link/Collateral/493-01.PDF
footprint ONSC-US-8-493-02_V (SOP, 8-Leads, Body 2.4x2.1mm, Pitch 0.5mm)
pins: 1 OE1 (in), 2 A1, 3 B2, 4 GND (power), 5 A2, 6 B1, 7 OE2 (in), 8 VCC (power)

## 7WBD3305AMUTCG
designator U?
2-Bit Translating Bus Switch, 4 to 5.5 V, -55 to 125 degC, 8-Pin UQFN, Pb-Free, Tape and Reel; Manufacturer: On Semiconductor; PartNumber: 7WBD3305AMUTCG; VCC Max (V): 5.5; VCC Min (V): 4; DatasheetVersion: Rev. 1; PackageVersion: Rev. O, 11/2008; PackageReference: UQFN-8-523AN-01; PackageDescription: 8-Pin Quad Flat No-Lead, Body 1.6 x 1.6 mm, Pitch 0.5 mm; Supplier 1: Digi-Key; Supplier Part Number 1: 7WBD3305AMUTCG-ND; Supplier 2: Mouser; Supplier Part Number 2: 863-7WBD3305AMUTCG; Packing: Tape and Reel; RoHS: TRUE; Mounting Technology: Surface Mount; ComponentLink1Description: Manufacturer URL; ComponentLink1URL: http://www.onsemi.com/; ComponentLink2Description: Datasheet; ComponentLink2URL: http://www.onsemi.com/pub_link/Collateral/7WBD3305-D.PDF; ComponentLink3Description: Package Specification; ComponentLink3URL: http://www.onsemi.com/pub_link/Collateral/523AN.PDF
footprint ONSC-UQFN-8-523AN-01_V (QFN, 8-Leads, Body 1.6x1.6mm, Pitch 0.5mm)
pins: 1 OE2 (in), 2 B2, 3 A2, 4 GND (power), 5 B1, 6 A1, 7 OE1 (in), 8 VCC (power)

## 7WBD3305AMX1TCG
designator U?
2-Bit Translating Bus Switch, 4 to 5.5 V, -55 to 125 degC, 8-Pin ULLGA, Pb-Free, Tape and Reel; Manufacturer: On Semiconductor; PartNumber: 7WBD3305AMX1TCG; VCC Max (V): 5.5; VCC Min (V): 4; DatasheetVersion: Rev. 1; PackageVersion: Rev. A, 02/2008; PackageReference: ULLGA-8-613AC-01; PackageDescription: 8-Pin Land Grid Array, Body 1.95 x 1 mm, Pitch 0.5 mm; Supplier 1: Digi-Key; Supplier Part Number 1: 7WBD3305AMX1TCG-ND; Supplier 2: Mouser; Supplier Part Number 2: 863-7WBD3305AMX1TCG; Packing: Tape and Reel; RoHS: TRUE; Mounting Technology: Surface Mount; ComponentLink1Description: Manufacturer URL; ComponentLink1URL: http://www.onsemi.com/; ComponentLink2Description: Datasheet; ComponentLink2URL: http://www.onsemi.com/pub_link/Collateral/7WBD3305-D.PDF; ComponentLink3Description: Package Specification; ComponentLink3URL: http://www.onsemi.com/pub_link/Collateral/613AC.PDF
footprint ONSC-ULLGA-8-613AC-01_V (ULLGA, 8-Leads, Body 1.95x1mm, Pitch 0.5mm)
pins: 1 OE1 (in), 2 A1, 3 B1, 4 GND (power), 5 A2, 6 B2, 7 OE2 (in), 8 VCC (power)

## 7WBD3305BMX1TCG
designator U?
2-Bit Translating Bus Switch, 4 to 5.5 V, -55 to 125 degC, 8-Pin ULLGA, Pb-Free, Tape and Reel; Manufacturer: On Semiconductor; PartNumber: 7WBD3305BMX1TCG; VCC Max (V): 5.5; VCC Min (V): 4; DatasheetVersion: Rev. 1; PackageVersion: Rev. A, 02/2008; PackageReference: ULLGA-8-613AB-01; PackageDescription: 8-Pin Land Grid Array, Body 1.6 x 1 mm, Pitch 0.4 mm; Supplier 1: Digi-Key; Supplier Part Number 1: 7WBD3305BMX1TCG-ND; Supplier 2: Mouser; Supplier Part Number 2: 863-7WBD3305BMX1TCG; Packing: Tape and Reel; RoHS: TRUE; Mounting Technology: Surface Mount; ComponentLink1Description: Manufacturer URL; ComponentLink1URL: http://www.onsemi.com/; ComponentLink2Description: Datasheet; ComponentLink2URL: http://www.onsemi.com/pub_link/Collateral/7WBD3305-D.PDF; ComponentLink3Description: Package Specification; ComponentLink3URL: http://www.onsemi.com/pub_link/Collateral/613AB.PDF
footprint ONSC-ULLGA-8-613AB-01_V (SON, 8-Leads, Body 1.6x1mm, Pitch 0.4mm)
pins: 1 OE1 (in), 2 A1, 3 B1, 4 GND (power), 5 A2, 6 B2, 7 OE2 (in), 8 VCC (power)

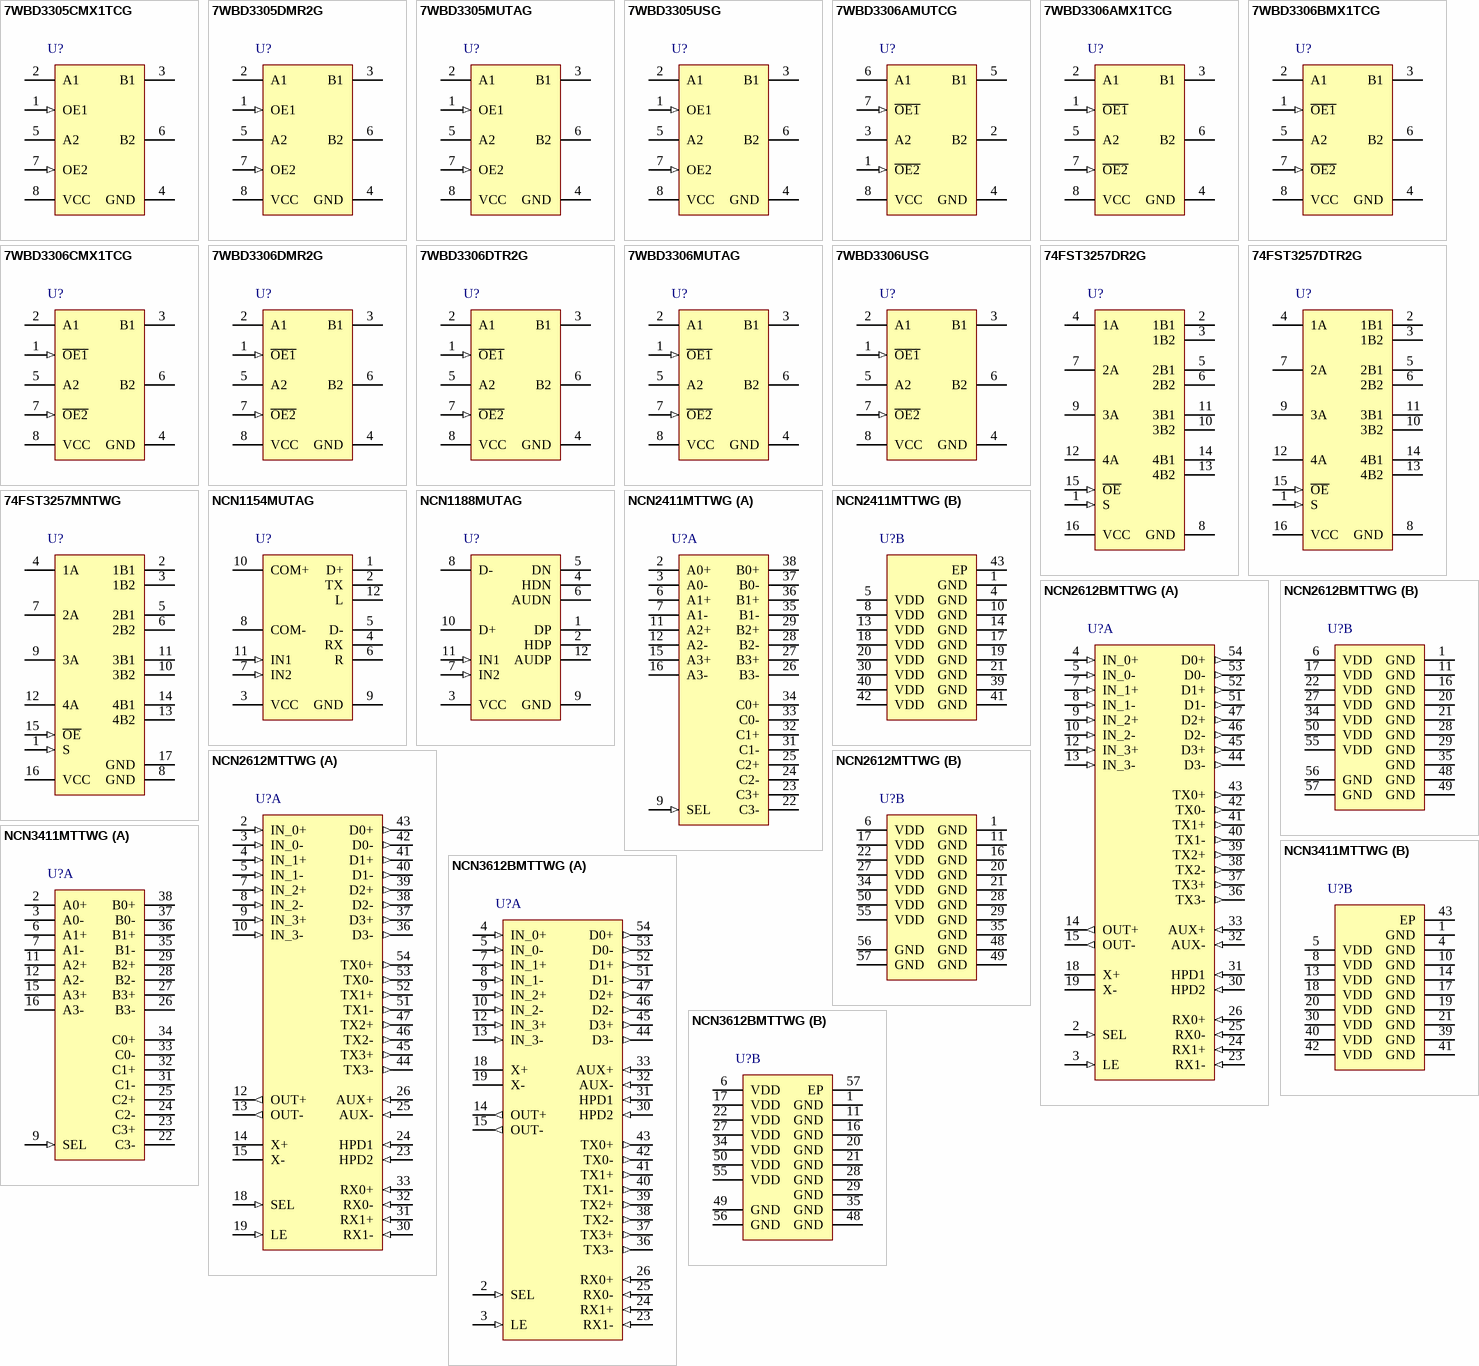
[diagram p2: symbols 7WBD3305CMX1TCG to NCN3612BMTTWG]

## 7WBD3305CMX1TCG
designator U?
2-Bit Translating Bus Switch, 4 to 5.5 V, -55 to 125 degC, 8-Pin ULLGA, Pb-Free, Tape and Reel; Manufacturer: On Semiconductor; PartNumber: 7WBD3305CMX1TCG; VCC Max (V): 5.5; VCC Min (V): 4; DatasheetVersion: Rev. 1; PackageVersion: Rev. A, 02/2008; PackageReference: ULLGA-8-613AA-01; PackageDescription: 8-Pin Land Grid Array, Body 1.45 x 1 mm, Pitch 0.35 mm; Supplier 1: Digi-Key; Supplier Part Number 1: 7WBD3305CMX1TCG-ND; Supplier 2: Mouser; Supplier Part Number 2: 863-7WBD3305CMX1TCG; Packing: Tape and Reel; RoHS: TRUE; Mounting Technology: Surface Mount; ComponentLink1Description: Manufacturer URL; ComponentLink1URL: http://www.onsemi.com/; ComponentLink2Description: Datasheet; ComponentLink2URL: http://www.onsemi.com/pub_link/Collateral/7WBD3305-D.PDF; ComponentLink3Description: Package Specification; ComponentLink3URL: http://www.onsemi.com/pub_link/Collateral/613AA.PDF
footprint ONSC-ULLGA-8-613AA-01_V (SON, 8-Leads, Body 1.45x1mm, Pitch 0.35mm)
pins: 1 OE1 (in), 2 A1, 3 B1, 4 GND (power), 5 A2, 6 B2, 7 OE2 (in), 8 VCC (power)

## 7WBD3305DMR2G
designator U?
2-Bit Translating Bus Switch, 4 to 5.5 V, -55 to 125 degC, 8-Pin MICRO, Pb-Free, Tape and Reel; Manufacturer: On Semiconductor; PartNumber: 7WBD3305DMR2G; VCC Max (V): 5.5; VCC Min (V): 4; DatasheetVersion: Rev. 1; PackageVersion: Rev. H; PackageReference: MICRO-8-846A-02_H; PackageDescription: 8-Pin Small Outline Package, Body 3 x 3 mm, Pitch 0.65 mm; Packing: Tape and Reel; RoHS: TRUE; Mounting Technology: Surface Mount; ComponentLink1Description: Manufacturer URL; ComponentLink1URL: http://www.onsemi.com/; ComponentLink2Description: Datasheet; ComponentLink2URL: http://www.onsemi.com/pub_link/Collateral/7WBD3305-D.PDF; ComponentLink3Description: Package Specification; ComponentLink3URL: http://www.onsemi.com/pub_link/Collateral/NLSV2T244-D.PDF
footprint ONSC-MICRO-8-846A-02_H_V (SOIC, 8-Leads, Body 3.1x3.1mm, Pitch 0.65mm)
pins: 1 OE1 (in), 2 A1, 3 B1, 4 GND (power), 5 A2, 6 B2, 7 OE2 (in), 8 VCC (power)

## 7WBD3305MUTAG
designator U?
2-Bit Translating Bus Switch, 4 to 5.5 V, -55 to 125 degC, 8-Pin UDFN, Pb-Free, Tape and Reel; Manufacturer: On Semiconductor; PartNumber: 7WBD3305MUTAG; VCC Max (V): 5.5; VCC Min (V): 4; DatasheetVersion: Rev. 1; PackageVersion: Rev. O, 11/2006; PackageReference: UDFN-8-517AJ-01; PackageDescription: 8-Pin Small Outline No-Lead, Body 1.8 x 1.2 mm, Pitch 0.4 mm; Supplier 1: Digi-Key; Supplier Part Number 1: 7WBD3305MUTAG-ND; Supplier 2: Mouser; Supplier Part Number 2: 863-7WBD3305MUTAG; Packing: Tape and Reel; RoHS: TRUE; Mounting Technology: Surface Mount; ComponentLink1Description: Manufacturer URL; ComponentLink1URL: http://www.onsemi.com/; ComponentLink2Description: Datasheet; ComponentLink2URL: http://www.onsemi.com/pub_link/Collateral/7WBD3305-D.PDF; ComponentLink3Description: Package Specification; ComponentLink3URL: http://www.onsemi.cn/pub_link/Collateral/517AJ.PDF.1
footprint ONSC-UDFN-8-517AJ-01_V (SON, 8-Leads, Body 1.8x1.2mm, Pitch 0.4mm)
pins: 1 OE1 (in), 2 A1, 3 B1, 4 GND (power), 5 A2, 6 B2, 7 OE2 (in), 8 VCC (power)

## 7WBD3305USG
designator U?
2-Bit Translating Bus Switch, 4 to 5.5 V, -55 to 125 degC, 8-Pin US, Pb-Free, Tape and Reel; Manufacturer: On Semiconductor; PartNumber: 7WBD3305USG; VCC Max (V): 5.5; VCC Min (V): 4; DatasheetVersion: Rev. 1; PackageVersion: Rev. B, 04/2006; PackageReference: US-8-493-02; PackageDescription: 8-Pin Small Outline Package, Body 2 x 2.3 mm, Pitch 0.5 mm; Supplier 1: Digi-Key; Supplier Part Number 1: 7WBD3305USG-ND; Supplier 2: Mouser; Supplier Part Number 2: 863-7WBD3305USG; Packing: Tape and Reel; RoHS: TRUE; Mounting Technology: Surface Mount; ComponentLink1Description: Manufacturer URL; ComponentLink1URL: http://www.onsemi.com/; ComponentLink2Description: Datasheet; ComponentLink2URL: http://www.onsemi.com/pub_link/Collateral/7WBD3305-D.PDF; ComponentLink3Description: Package Specification; ComponentLink3URL: http://www.onsemi.com/pub_link/Collateral/493-01.PDF
footprint ONSC-US-8-493-02_V (SOP, 8-Leads, Body 2.4x2.1mm, Pitch 0.5mm)
pins: 1 OE1 (in), 2 A1, 3 B1, 4 GND (power), 5 A2, 6 B2, 7 OE2 (in), 8 VCC (power)

## 7WBD3306AMUTCG
designator U?
2-Bit Translating Bus Switch, 4 to 5.5 V, -55 to 125 degC, 8-Pin UQFN, Pb-Free, Tape and Reel; Manufacturer: On Semiconductor; PartNumber: 7WBD3306AMUTCG; VCC Max (V): 5.5; VCC Min (V): 4; DatasheetVersion: Rev. 1; PackageVersion: Rev. O, 11/2008; PackageReference: UQFN-8-523AN-01; PackageDescription: 8-Pin Quad Flat No-Lead, Body 1.6 x 1.6 mm, Pitch 0.5 mm; Supplier 1: Digi-Key; Supplier Part Number 1: 7WBD3306AMUTCG-ND; Supplier 2: Mouser; Supplier Part Number 2: 863-7WBD3306AMUTCG; Packing: Tape and Reel; RoHS: TRUE; Mounting Technology: Surface Mount; ComponentLink1Description: Manufacturer URL; ComponentLink1URL: http://www.onsemi.com/; ComponentLink2Description: Datasheet; ComponentLink2URL: http://www.onsemi.com/pub_link/Collateral/7WBD3306-D.PDF; ComponentLink3Description: Package Specification; ComponentLink3URL: http://www.onsemi.com/pub_link/Collateral/523AN.PDF
footprint ONSC-UQFN-8-523AN-01_V (QFN, 8-Leads, Body 1.6x1.6mm, Pitch 0.5mm)
pins: 1 ~{OE2} (in), 2 B2, 3 A2, 4 GND (power), 5 B1, 6 A1, 7 ~{OE1} (in), 8 VCC (power)

## 7WBD3306AMX1TCG
designator U?
2-Bit Translating Bus Switch, 4 to 5.5 V, -55 to 125 degC, 8-Pin ULLGA, Pb-Free, Tape and Reel; Manufacturer: On Semiconductor; PartNumber: 7WBD3306AMX1TCG; VCC Max (V): 5.5; VCC Min (V): 4; DatasheetVersion: Rev. 1; PackageVersion: Rev. A, 02/2008; PackageReference: ULLGA-8-613AC-01; PackageDescription: 8-Pin Land Grid Array, Body 1.95 x 1 mm, Pitch 0.5 mm; Supplier 1: Digi-Key; Supplier Part Number 1: 7WBD3306AMX1TCG-ND; Supplier 2: Mouser; Supplier Part Number 2: 863-7WBD3306AMX1TCG; Packing: Tape and Reel; RoHS: TRUE; Mounting Technology: Surface Mount; ComponentLink1Description: Manufacturer URL; ComponentLink1URL: http://www.onsemi.com/; ComponentLink2Description: Datasheet; ComponentLink2URL: http://www.onsemi.com/pub_link/Collateral/7WBD3306-D.PDF; ComponentLink3Description: Package Specification; ComponentLink3URL: http://www.onsemi.com/pub_link/Collateral/613AC.PDF
footprint ONSC-ULLGA-8-613AC-01_V (ULLGA, 8-Leads, Body 1.95x1mm, Pitch 0.5mm)
pins: 1 ~{OE1} (in), 2 A1, 3 B1, 4 GND (power), 5 A2, 6 B2, 7 ~{OE2} (in), 8 VCC (power)

## 7WBD3306BMX1TCG
designator U?
2-Bit Translating Bus Switch, 4 to 5.5 V, -55 to 125 degC, 8-Pin ULLGA, Pb-Free, Tape and Reel; Manufacturer: On Semiconductor; PartNumber: 7WBD3306BMX1TCG; VCC Max (V): 5.5; VCC Min (V): 4; DatasheetVersion: Rev. 1; PackageVersion: Rev. A, 02/2008; PackageReference: ULLGA-8-613AB-01; PackageDescription: 8-Pin Land Grid Array, Body 1.6 x 1 mm, Pitch 0.4 mm; Supplier 1: Digi-Key; Supplier Part Number 1: 7WBD3306BMX1TCG-ND; Supplier 2: Mouser; Supplier Part Number 2: 863-7WBD3306BMX1TCG; Packing: Tape and Reel; RoHS: TRUE; Mounting Technology: Surface Mount; ComponentLink1Description: Manufacturer URL; ComponentLink1URL: http://www.onsemi.com/; ComponentLink2Description: Datasheet; ComponentLink2URL: http://www.onsemi.com/pub_link/Collateral/7WBD3306-D.PDF; ComponentLink3Description: Package Specification; ComponentLink3URL: http://www.onsemi.com/pub_link/Collateral/613AB.PDF
footprint ONSC-ULLGA-8-613AB-01_V (SON, 8-Leads, Body 1.6x1mm, Pitch 0.4mm)
pins: 1 ~{OE1} (in), 2 A1, 3 B1, 4 GND (power), 5 A2, 6 B2, 7 ~{OE2} (in), 8 VCC (power)

## 7WBD3306CMX1TCG
designator U?
2-Bit Translating Bus Switch, 4 to 5.5 V, -55 to 125 degC, 8-Pin ULLGA, Pb-Free, Tape and Reel; Manufacturer: On Semiconductor; PartNumber: 7WBD3306CMX1TCG; VCC Max (V): 5.5; VCC Min (V): 4; DatasheetVersion: Rev. 1; PackageVersion: Rev. A, 02/2008; PackageReference: ULLGA-8-613AA-01; PackageDescription: 8-Pin Land Grid Array, Body 1.45 x 1 mm, Pitch 0.35 mm; Supplier 1: Digi-Key; Supplier Part Number 1: 7WBD3306CMX1TCG-ND; Supplier 2: Mouser; Supplier Part Number 2: 863-7WBD3306CMX1TCG; Packing: Tape and Reel; RoHS: TRUE; Mounting Technology: Surface Mount; ComponentLink1Description: Manufacturer URL; ComponentLink1URL: http://www.onsemi.com/; ComponentLink2Description: Datasheet; ComponentLink2URL: http://www.onsemi.com/pub_link/Collateral/7WBD3306-D.PDF; ComponentLink3Description: Package Specification; ComponentLink3URL: http://www.onsemi.com/pub_link/Collateral/613AA.PDF
footprint ONSC-ULLGA-8-613AA-01_V (SON, 8-Leads, Body 1.45x1mm, Pitch 0.35mm)
pins: 1 ~{OE1} (in), 2 A1, 3 B1, 4 GND (power), 5 A2, 6 B2, 7 ~{OE2} (in), 8 VCC (power)

## 7WBD3306DMR2G
designator U?
2-Bit Translating Bus Switch, 4 to 5.5 V, -55 to 125 degC, 8-Pin MICRO, Pb-Free, Tape and Reel; Manufacturer: On Semiconductor; PartNumber: 7WBD3306DMR2G; VCC Max (V): 5.5; VCC Min (V): 4; DatasheetVersion: Rev. 1; PackageVersion: Rev. H; PackageReference: MICRO-8-846A-02_H; PackageDescription: 8-Pin Small Outline Package, Body 3 x 3 mm, Pitch 0.65 mm; Packing: Tape and Reel; RoHS: TRUE; Mounting Technology: Surface Mount; ComponentLink1Description: Manufacturer URL; ComponentLink1URL: http://www.onsemi.com/; ComponentLink2Description: Datasheet; ComponentLink2URL: http://www.onsemi.com/pub_link/Collateral/7WBD3306-D.PDF; ComponentLink3Description: Package Specification; ComponentLink3URL: http://www.onsemi.com/pub_link/Collateral/NLSV2T244-D.PDF
footprint ONSC-MICRO-8-846A-02_H_V (SOIC, 8-Leads, Body 3.1x3.1mm, Pitch 0.65mm)
pins: 1 ~{OE1} (in), 2 A1, 3 B1, 4 GND (power), 5 A2, 6 B2, 7 ~{OE2} (in), 8 VCC (power)

## 7WBD3306DTR2G
designator U?
2-Bit Translating Bus Switch, 4 to 5.5 V, -55 to 125 degC, 8-Pin TSSOP, Pb-Free, Tape and Reel; Manufacturer: On Semiconductor; PartNumber: 7WBD3306DTR2G; VCC Max (V): 5.5; VCC Min (V): 4; DatasheetVersion: Rev. 1; PackageVersion: Rev. O, 12/2008; PackageReference: TSSOP-8-948AL-01; PackageDescription: 8-Pin Small Outline Package, Body 4.4 x 3 mm, Pitch 0.65 mm; Supplier 1: Digi-Key; Supplier Part Number 1: 7WBD3306DTR2G-ND; Supplier 2: Mouser; Supplier Part Number 2: 863-7WBD3306DTR2G; Packing: Tape and Reel; RoHS: TRUE; Mounting Technology: Surface Mount; Code_JEDEC: MO-153; ComponentLink1Description: Manufacturer URL; ComponentLink1URL: http://www.onsemi.com/; ComponentLink2Description: Datasheet; ComponentLink2URL: http://www.onsemi.com/pub_link/Collateral/7WBD3306-D.PDF; ComponentLink3Description: Package Specification; ComponentLink3URL: http://www.onsemi.com/pub/Collateral/948AL.PDF
footprint ONSC-TSSOP-8-948AL-01_N (SOP, 8-Leads, Body 4.5x3.1mm, Pitch 0.65mm, IPC Medium Density)
footprint ONSC-TSSOP-8-948AL-01_L (SOP, 8-Leads, Body 4.5x3.1mm, Pitch 0.65mm, IPC High Density)
footprint ONSC-TSSOP-8-948AL-01_M (SOP, 8-Leads, Body 4.5x3.1mm, Pitch 0.65mm, IPC Low Density)
pins: 1 ~{OE1} (in), 2 A1, 3 B1, 4 GND (power), 5 A2, 6 B2, 7 ~{OE2} (in), 8 VCC (power)

## 7WBD3306MUTAG
designator U?
2-Bit Translating Bus Switch, 4 to 5.5 V, -55 to 125 degC, 8-Pin UDFN, Pb-Free, Tape and Reel; Manufacturer: On Semiconductor; PartNumber: 7WBD3306MUTAG; VCC Max (V): 5.5; VCC Min (V): 4; DatasheetVersion: Rev. 1; PackageVersion: Rev. O, 11/2006; PackageReference: UDFN-8-517AJ-01; PackageDescription: 8-Pin Small Outline No-Lead, Body 1.8 x 1.2 mm, Pitch 0.4 mm; Supplier 1: Digi-Key; Supplier Part Number 1: 7WBD3306MUTAG-ND; Supplier 2: Mouser; Supplier Part Number 2: 863-7WBD3306MUTAG; Packing: Tape and Reel; RoHS: TRUE; Mounting Technology: Surface Mount; ComponentLink1Description: Manufacturer URL; ComponentLink1URL: http://www.onsemi.com/; ComponentLink2Description: Datasheet; ComponentLink2URL: http://www.onsemi.com/pub_link/Collateral/7WBD3306-D.PDF; ComponentLink3Description: Package Specification; ComponentLink3URL: http://www.onsemi.cn/pub_link/Collateral/517AJ.PDF.1
footprint ONSC-UDFN-8-517AJ-01_V (SON, 8-Leads, Body 1.8x1.2mm, Pitch 0.4mm)
pins: 1 ~{OE1} (in), 2 A1, 3 B1, 4 GND (power), 5 A2, 6 B2, 7 ~{OE2} (in), 8 VCC (power)

## 7WBD3306USG
designator U?
2-Bit Translating Bus Switch, 4 to 5.5 V, -55 to 125 degC, 8-Pin US, Pb-Free, Tape and Reel; Manufacturer: On Semiconductor; PartNumber: 7WBD3306USG; VCC Max (V): 5.5; VCC Min (V): 4; DatasheetVersion: Rev. 1; PackageVersion: Rev. B, 04/2006; PackageReference: US-8-493-02; PackageDescription: 8-Pin Small Outline Package, Body 2 x 2.3 mm, Pitch 0.5 mm; Supplier 1: Digi-Key; Supplier Part Number 1: 7WBD3306USG-ND; Supplier 2: Mouser; Supplier Part Number 2: 863-7WBD3306USG; Packing: Tape and Reel; RoHS: TRUE; Mounting Technology: Surface Mount; ComponentLink1Description: Manufacturer URL; ComponentLink1URL: http://www.onsemi.com/; ComponentLink2Description: Datasheet; ComponentLink2URL: http://www.onsemi.com/pub_link/Collateral/7WBD3306-D.PDF; ComponentLink3Description: Package Specification; ComponentLink3URL: http://www.onsemi.com/pub_link/Collateral/493-01.PDF
footprint ONSC-US-8-493-02_V (SOP, 8-Leads, Body 2.4x2.1mm, Pitch 0.5mm)
pins: 1 ~{OE1} (in), 2 A1, 3 B1, 4 GND (power), 5 A2, 6 B2, 7 ~{OE2} (in), 8 VCC (power)